# Altium schematic symbol library MicromouseLib.SchLib: 36 symbols
Pins are listed as number, name and electrical type; pins without a type are passive.

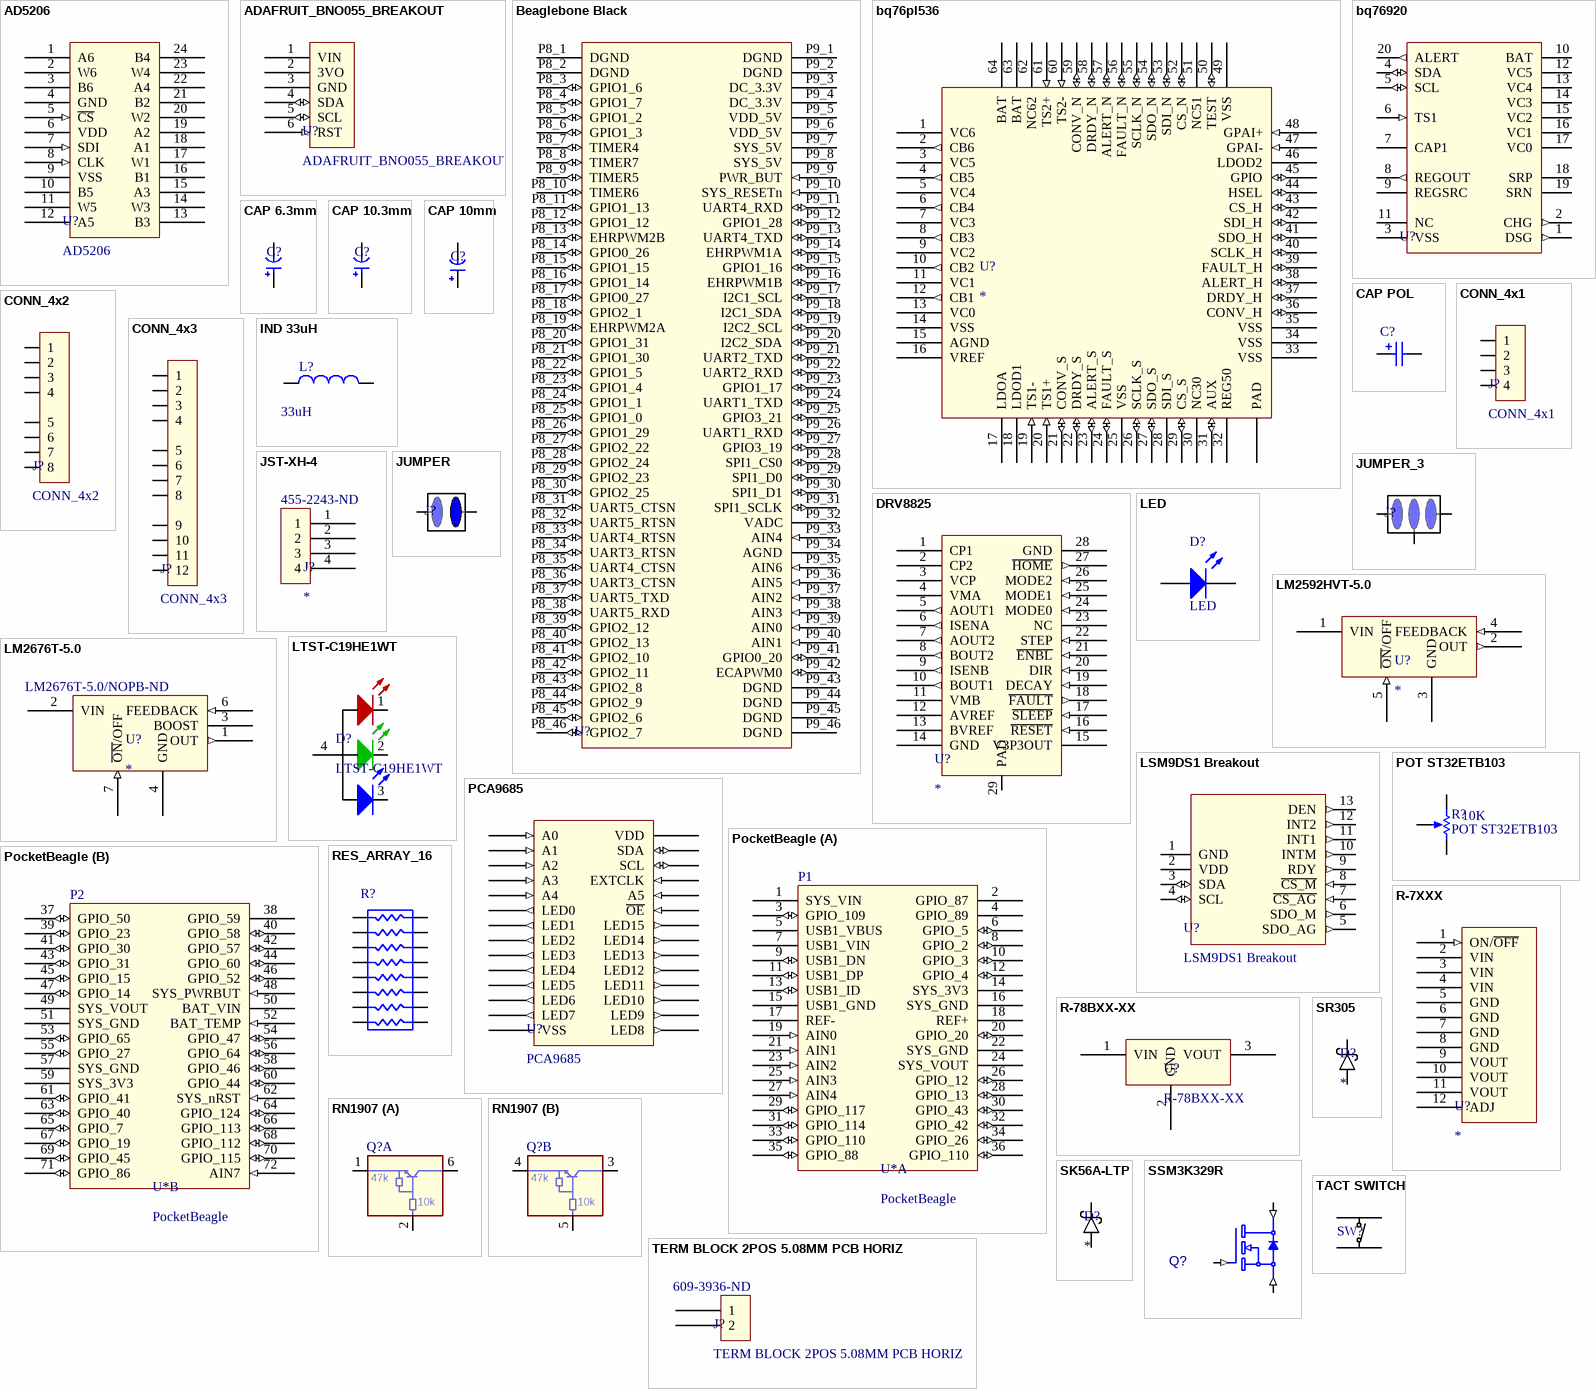
[diagram p0: symbols AD5206 to TERM BLOCK 2POS 5.08MM PCB HORIZ]

## AD5206
designator U?
footprint SOIC_W24
pins: 1 A6, 2 W6, 3 B6, 4 GND (power), 5 ~{CS} (in), 6 VDD (power), 7 SDI (in), 8 CLK (in), 9 VSS (power), 10 B5, 11 W5, 12 A5, 13 B3, 14 W3, 15 A3, 16 B1, 17 W1, 18 A1, 19 A2, 20 W2, 21 B2, 22 A4, 23 W4, 24 B4

## ADAFRUIT_BNO055_BREAKOUT
designator U?
footprint ADAFRUIT_BNO055_BREAKOUT
pins: 1 VIN (power), 2 3VO (power), 3 GND (power), 4 SDA (io), 5 SCL (io), 6 RST (in)

## Beaglebone Black
designator U?  (value not drawn)
footprint BEAGLEBONE_BLACK
pins: P8_1 DGND (power), P8_2 DGND (power), P8_3 GPIO1_6 (io), P8_4 GPIO1_7 (io), P8_5 GPIO1_2 (io), P8_6 GPIO1_3 (io), P8_7 TIMER4 (io), P8_8 TIMER7 (io), P8_9 TIMER5 (io), P8_10 TIMER6 (io), P8_11 GPIO1_13 (io), P8_12 GPIO1_12 (io), P8_13 EHRPWM2B (io), P8_14 GPIO0_26 (io), P8_15 GPIO1_15 (io), P8_16 GPIO1_14 (io), P8_17 GPIO0_27 (io), P8_18 GPIO2_1 (io), P8_19 EHRPWM2A (io), P8_20 GPIO1_31 (io), P8_21 GPIO1_30 (io), P8_22 GPIO1_5 (io), P8_23 GPIO1_4 (io), P8_24 GPIO1_1 (io), P8_25 GPIO1_0 (io), P8_26 GPIO1_29 (io), P8_27 GPIO2_22 (io), P8_28 GPIO2_24 (io), P8_29 GPIO2_23 (io), P8_30 GPIO2_25 (io), P8_31 UART5_CTSN (io), P8_32 UART5_RTSN (io), P8_33 UART4_RTSN (io), P8_34 UART3_RTSN (io), P8_35 UART4_CTSN (io), P8_36 UART3_CTSN (io), P8_37 UART5_TXD (io), P8_38 UART5_RXD (io), P8_39 GPIO2_12 (io), P8_40 GPIO2_13 (io), P8_41 GPIO2_10 (io), P8_42 GPIO2_11 (io), P8_43 GPIO2_8 (io), P8_44 GPIO2_9 (io), P8_45 GPIO2_6 (io), P8_46 GPIO2_7 (io), P9_1 DGND (power), P9_2 DGND (power), P9_3 DC_3.3V (power), P9_4 DC_3.3V (power), P9_5 VDD_5V (power), P9_6 VDD_5V (power), P9_7 SYS_5V (power), P9_8 SYS_5V (power), P9_9 PWR_BUT (in), P9_10 SYS_RESETn (in), P9_11 UART4_RXD (io), P9_12 GPIO1_28 (io), P9_13 UART4_TXD (io), P9_14 EHRPWM1A (io), P9_15 GPIO1_16 (io), P9_16 EHRPWM1B (io), P9_17 I2C1_SCL (io), P9_18 I2C1_SDA (io), P9_19 I2C2_SCL (io), P9_20 I2C2_SDA (io), P9_21 UART2_TXD (io), P9_22 UART2_RXD (io), P9_23 GPIO1_17 (io), P9_24 UART1_TXD (io), P9_25 GPIO3_21 (io), P9_26 UART1_RXD (io), P9_27 GPIO3_19 (io), P9_28 SPI1_CS0 (io), P9_29 SPI1_D0 (io), P9_30 SPI1_D1 (io), P9_31 SPI1_SCLK (io), P9_32 VADC (power), P9_33 AIN4 (in), P9_34 AGND (power), P9_35 AIN6 (in), P9_36 AIN5 (in), P9_37 AIN2 (in), P9_38 AIN3 (in), P9_39 AIN0 (in), P9_40 AIN1 (in), P9_41 GPIO0_20 (io), P9_42 ECAPWM0 (io), P9_43 DGND (power), P9_44 DGND (power), P9_45 DGND (power), P9_46 DGND (power)

## bq76pl536
designator U?
footprint LQFP64-0.5
pins: 1 VC6 (power), 2 CB6 (out), 3 VC5 (power), 4 CB5 (out), 5 VC4 (power), 6 CB4 (out), 7 VC3 (power), 8 CB3 (out), 9 VC2 (power), 10 CB2 (out), 11 VC1 (power), 12 CB1 (out), 13 VC0 (power), 14 VSS (power), 15 AGND (power), 16 VREF (power), 17 LDOA (power), 18 LDOD1 (power), 19 TS1- (in), 20 TS1+ (in), 21 CONV_S (io), 22 DRDY_S (io), 23 ALERT_S (io), 24 FAULT_S (io), 25 VSS (power), 26 SCLK_S (io), 27 SDO_S (io), 28 SDI_S (power), 29 CS_S (io), 30 NC30 (power), 31 AUX (io), 32 REG50 (power), 33 VSS (power), 34 VSS (power), 35 VSS (power), 36 CONV_H (io), 37 DRDY_H (io), 38 ALERT_H (io), 39 FAULT_H (io), 40 SCLK_H (io), 41 SDO_H (io), 42 SDI_H (io), 43 CS_H (io), 44 HSEL (io), 45 GPIO (io), 46 LDOD2 (power), 47 GPAI- (in), 48 GPAI+ (in), 49 VSS (power), 50 TEST (io), 51 NC51 (power), 52 CS_N (io), 53 SDI_N (io), 54 SDO_N (io), 55 SCLK_N (io), 56 FAULT_N (io), 57 ALERT_N (io), 58 DRDY_N (io), 59 CONV_N (io), 60 TS2- (in), 61 TS2+ (in), 62 NC62 (power), 63 BAT (power), 64 BAT (power), 65 PAD (power)

## bq76920
designator U?  (value not drawn)
footprint TSSOP20
pins: 1 DSG (out), 2 CHG (out), 3 VSS (power), 4 SDA (io), 5 SCL (io), 6 TS1 (in), 7 CAP1, 8 REGOUT (out), 9 REGSRC (power), 10 BAT (power), 11 NC, 12 VC5, 13 VC4, 14 VC3, 15 VC2, 16 VC1, 17 VC0, 18 SRP, 19 SRN, 20 ALERT (out)

## CAP 6.3mm
designator C?  (value not drawn)
footprint CAP-6.3mm
pins: 1, 2

## CAP 10.3mm
designator C?  (value not drawn)
footprint CAP 10.3mm
pins: 1, 2

## CAP 10mm
designator C?  (value not drawn)
footprint CAP-10mm
pins: 1, 2

## CAP POL
designator C?  (value not drawn)
Published: 8-Jun-2000; LatestRevisionDate: 17-Jul-2002; LatestRevisionNote: Re-released for DXP Platform.; PackageReference: RB7.6-15; Publisher: Altium Limited; PackageDescription: Polarized Capacitor (Radial); 2 Leads
footprint RB7.6-15 (Polarized Capacitor (Radial); 2 Leads)
simulation model CAP (Capacitor)
signal-integrity model Cap Pol
pins: 1, 2
1 alternate drawing of the same symbol

## CONN_4x1
designator J?
pins: 1, 2, 3, 4

## CONN_4x2
designator J?
footprint CONN_4x2
pins: 1, 2, 3, 4, 5, 6, 7, 8

## CONN_4x3
designator J?
footprint CONN_4x3
pins: 1, 2, 3, 4, 5, 6, 7, 8, 9, 10, 11, 12

## DRV8825
designator U?
footprint PP28
pins: 1 CP1, 2 CP2, 3 VCP (power), 4 VMA (power), 5 AOUT1 (out), 6 ISENA (out), 7 AOUT2 (out), 8 BOUT2 (out), 9 ISENB (out), 10 BOUT1 (out), 11 VMB (power), 12 AVREF (power), 13 BVREF (power), 14 GND (power), 15 V3P3OUT (power), 16 ~{RESET} (in) "Internal pulldown", 17 ~{SLEEP} (in) "Internal pulldown", 18 ~{FAULT} (out) "low when in fault", 19 DECAY (in) "Low=slow decay, open=mixed delay, high=fast decay", 20 DIR (in), 21 ~{ENBL} (in) "Internal Pulldown", 22 STEP (in) "Steps on rising edge", 23 NC, 24 MODE0 (in) "Internal Pulldown", 25 MODE1 (in) "Internal Pulldown", 26 MODE2 (in) "Internal Pulldown", 27 ~{HOME} (out) "Low when at home position in the step table", 28 GND, 29 PAD (power)

## IND 33uH
designator L?  value 33uH  (hidden comment: *)
Inductor 33uH
footprint IND-SMD (Surface-Mount Inductor)
pins: 1, 2

## JST-XH-4
designator J?  Supplier Part Number 1: 455-2243-ND
Manufacturer: JST Sales America Inc.; Manufacturer Part Number: S4B-XH-A(LF)(SN); Connector Type: Header; Pitch - Mating: 0.098" (2.50mm); Number of Positions: 4; Number of Positions Loaded: All; Style: Board to Cable/Wire; Shrouding: Shrouded - 4 Wall; Contact Length - Post: 0.134" (3.40mm); Material Flammability Rating: UL94 V-0; Current Rating: 3A; Voltage Rating: 250V; Mated Stacking Heights: 6.1mm; Supplier 1: Digi-Key; RoHS: RoHS Compliant; Category: Connectors, Interconnects; Stock 1: 46156; Pricing 1: 1=0.27, 10=0.257, 100=0.1785, 500=0.151, 1000=0.12355, 5000=0.10982, 10000=0.09953 (USD); Packaging: Bulk; Part Status: Active; Contact Type: Male Pin; Number of Rows: 1; Row Spacing - Mating: -; Mounting Type: Through Hole, Right Angle; Termination: Press-Fit, Solder; Fastening Type: Detent Lock; Contact Length - Mating: -; Overall Contact Length: -; Insulation Height: 0.240" (6.10mm); Contact Shape: Square; Contact Finish - Mating: Tin; Contact Finish Thickness - Mating: -; Contact Finish - Post: Tin; Contact Material: Brass; Insulation Material: Polyamide (PA66), Nylon 6/6; Features: -; Operating Temperature: -25°C ~ 85°C; Ingress Protection: -; Insulation Color: Natural; Contact Finish Thickness - Post: -; Applications: -; ComponentLink1URL: http://www.jst-mfg.com/product/pdf/eng/eXH.pdf; ComponentLink1Description: http://www.jst-mfg.com/product/pdf/eng/eXH.pdf
footprint JST-XH-4
pins: 1, 2, 3, 4

## JUMPER
designator J?  (value not drawn)
footprint JUMPER
pins: 1, 2

## JUMPER_3
designator J?  (value not drawn)
footprint JUMPER_3
pins: 1 (power), 2 (power), 3 (power)

## LED
designator D?
Published: 8-Jun-2000; LatestRevisionDate: 17-Jul-2002; LatestRevisionNote: Re-released for DXP Platform.; PackageVersion: Feb-2002; PackageReference: 3.2X1.6X1.1; Publisher: Altium Limited; PackageDescription: SM LED; 2 Flat Leads
simulation model LED2 (Diode)
pins: 1 A, 2 K

## LM2592HVT-5.0
designator U?
Power Converter 150-kHz 2-A Step-Down Voltage  Regulator
footprint TO-220-5 with Heatsink (TO-220-5 with 335-1092-ND heatsink)
pins: 1 VIN (power), 2 OUT (out), 3 GND (power), 4 FEEDBACK (in), 5 ~{ON}/OFF (in)

## LM2676T-5.0
designator U?  Supplier Part Number 1: LM2676T-5.0/NOPB-ND
High Efficiency 3-A Step-Down Voltage Regulator; Manufacturer: Texas Instruments; Manufacturer Part Number: LM2676T-5.0/NOPB; Output Configuration: Positive; Topology: Buck; Output Type: Fixed; Number of Outputs: 1; Voltage - Input (Min): 8V; Voltage - Input (Max): 40V; Voltage - Output (Min/Fixed): 5V; Current - Output: 3A; Frequency - Switching: 260kHz; Synchronous Rectifier: No; Supplier 1: Digi-Key; RoHS: RoHS Compliant; Category: Integrated Circuits (ICs); Stock 1: 349; Pricing 1: 1=4.77, 10=4.284, 100=3.51, 500=2.988, 1000=2.52 (USD); Packaging: Tube; Part Status: Active; Function: Step-Down; Voltage - Output (Max): -; Operating Temperature: -40°C ~ 125°C (TJ); Mounting Type: Through Hole; Package / Case: TO-220-7 (Formed Leads); Supplier Device Package: TO-220-7; ComponentLink1URL: http://www.ti.com/lit/ds/symlink/lm2676.pdf; ComponentLink1Description: http://www.ti.com/lit/ds/symlink/lm2676.pdf
footprint TO-220-7 with Heatsink (TO-220-5 with 335-1092-ND heatsink)
pins: 1 OUT (out), 2 VIN (power), 3 BOOST, 4 GND (power), 6 FEEDBACK (in), 7 ~{ON}/OFF (in)

## LSM9DS1 Breakout
designator U?
SPARKFUN 9 DEGREES OF FREEDOM IM; Supplier Part Number 1: 1568-1257-ND; Supplier 1: Digi-Key
footprint LSM9DS1 Breakout
pins: 1 GND (power), 2 VDD (power), 3 SDA (io), 4 SCL (io), 5 SDO_AG (out), 6 SDO_M (out), 7 ~{CS_AG} (in), 8 ~{CS_M} (in), 9 RDY (out), 10 INTM (out), 11 INT1 (out), 12 INT2 (out), 13 DEN (out)

## LTST-C19HE1WT
designator D?
footprint LTST-C19HE1WT
pins: 1 R "Red", 2 G "Blue", 3 B "Green", 4 A "Common"

## PCA9685
designator U?
footprint TSSOP28
pins: 1 A0 (in), 2 A1 (in), 3 A2 (in), 4 A3 (in), 5 A4 (in), 6 LED0 (out), 7 LED1 (out), 8 LED2 (out), 9 LED3 (out), 10 LED4 (out), 11 LED5 (out), 12 LED6 (out), 13 LED7 (out), 14 VSS (power), 15 LED8 (out), 16 LED9 (out), 17 LED10 (out), 18 LED11 (out), 19 LED12 (out), 20 LED13 (out), 21 LED14 (out), 22 LED15 (out), 23 ~{OE} (in), 24 A5 (in), 25 EXTCLK (in), 26 SCL (io), 27 SDA (io), 28 VDD (power)

## PocketBeagle
designator U*
Male Connector DigiKey PN: 732-5309-ND; Female Connector DigiKey PN: S7121-ND
footprint PocketBeagle
part A pins: 1 SYS_VIN (power), 2 GPIO_87, 3 GPIO_109 (io), 4 GPIO_89, 5 USB1_VBUS (power), 6 GPIO_5 (io), 7 USB1_VIN (power), 8 GPIO_2 (io), 9 USB1_DN (io), 10 GPIO_3 (io), 11 USB1_DP (io), 12 GPIO_4 (io), 13 USB1_ID (io), 14 SYS_3V3 (power), 15 USB1_GND (power), 16 SYS_GND (power), 17 REF- (power), 18 REF+ (power), 19 AIN0 (in), 20 GPIO_20 (io), 21 AIN1 (in), 22 SYS_GND, 23 AIN2 (in), 24 SYS_VOUT (power), 25 AIN3 (in), 26 GPIO_12 (io), 27 AIN4 (in), 28 GPIO_13 (io), 29 GPIO_117 (io), 30 GPIO_43 (io), 31 GPIO_114 (io), 32 GPIO_42 (io), 33 GPIO_110 (io), 34 GPIO_26 (io), 35 GPIO_88 (io), 36 GPIO_110 (io)
part B pins: 37 GPIO_50 (io), 38 GPIO_59, 39 GPIO_23 (io), 40 GPIO_58 (io), 41 GPIO_30 (io), 42 GPIO_57 (io), 43 GPIO_31 (io), 44 GPIO_60 (io), 45 GPIO_15 (io), 46 GPIO_52 (io), 47 GPIO_14 (io), 48 SYS_PWRBUT (in), 49 SYS_VOUT (power), 50 BAT_VIN (power), 51 SYS_GND (power), 52 BAT_TEMP (in), 53 GPIO_65 (io), 54 GPIO_47 (io), 55 GPIO_27 (io), 56 GPIO_64 (io), 57 SYS_GND (power), 58 GPIO_46 (io), 59 SYS_3V3 (power), 60 GPIO_44 (io), 61 GPIO_41 (io), 62 SYS_nRST (in), 63 GPIO_40 (io), 64 GPIO_124 (io), 65 GPIO_7 (io), 66 GPIO_113 (io), 67 GPIO_19 (io), 68 GPIO_112 (io), 69 GPIO_45 (io), 70 GPIO_115 (io), 71 GPIO_86 (io), 72 AIN7 (in)
part A text: P1
part B text: P2

## POT ST32ETB103
designator R?  value 10K
10K Trimmer Potentiometer; Sim Note: Enter the Resistance value and the set point into parameter fields.; Set Position: 0.5; Published: 8-Jun-2000; LatestRevisionDate: 17-Jul-2002; LatestRevisionNote: Re-released for DXP Platform.; PackageReference: VR5; Publisher: Altium Limited; PackageDescription: Variable Resistor, Thru-Hole; 3 Leads
footprint ST32-EB
simulation model POT (Potentiometer)
pins: 1 TOP, 2 TAP, 3 BOT
1 alternate drawing of the same symbol

## R-7XXX
designator U?
footprint R-7XXX (The R-7XXX series is a high performance 2.5V to 15V , 2Amp to 4Amp,12-Pin SIP (single in-line package),  Integrated switching regulator (ISR). The Synchronous - rectified design yields excellent efficiencies up to 97%.  Short circuit protection reduces the short circuit input current to under 50mA.)
pins: 1 ON/~{OFF} (in), 2 VIN (power), 3 VIN (power), 4 VIN (power), 5 GND (power), 6 GND (power), 7 GND (power), 8 GND (power), 9 VOUT (power), 10 VOUT (power), 11 VOUT (power), 12 ADJ (power)

## R-78BXX-XX
designator U?
footprint SIP-3
pins: 1 VIN (power), 2 GND (power), 3 VOUT (power)

## RES_ARRAY_16
designator R?
pins: 1, 2, 3, 4, 5, 6, 7, 8, 9, 10, 11, 12, 13, 14, 15, 16

## RN1907
designator Q?
TRANS 2NPN PREBIAS 0.2W US6; Supplier Part Number 1: RN1907LF(CTCT-ND; Supplier 1: Digi-Key
footprint SOT363-6L (SOT363, 6-Leads, Body 2x1.3mm, Pitch 0.65mm, Lead Span 2.1mm, IPC High Density)
part A pins: 1 4, 2 5, 6 3
part B pins: 3, 4, 5
part A text: 47k; 10k
part B text: 47k; 10k

## SK56A-LTP
designator D?
footprint DO-214AC
pins: A, K

## SR305
designator D?
Schottky Diode 50V 3A
footprint DO-201AD
pins: A, K

## SSM3K329R
designator Q?
footprint SOT-23_N (SOT23, 3-Leads, Body 2.9x1.3mm, Pitch 0.95mm, Lead Span 2.5mm, IPC Medium Density)
pins: 1 (in), 2 (in), 3 (in)

## TACT SWITCH
designator SW?  (value not drawn)
SWITCH TACTILE SPST-NO 0.05A 12V; Manufacturer: C&K; Manufacturer Part Number: PTS645SL50SMTR92 LFS; Switch Function: Off-Mom; Contact Rating @ Voltage: 0.05A @ 12VDC; Actuator Type: Standard; Actuator Height off PCB, Vertical: 5.00mm; Actuator Orientation: Top Actuated; Outline: 6.00mm x 6.00mm; Illumination: Non-Illuminated; Operating Force: 130gf; Actuator Material: Polyamide (PA66), Nylon 6/6; Mechanical Life: 100,000 Cycles; Supplier 1: Digi-Key; RoHS: RoHS Compliant; Category: Switches; Stock 1: 42939; Pricing 1: 1=0.22, 10=0.215, 25=0.2076, 50=0.2002, 100=0.1891, 250=0.17796, 500=0.17054 (USD); Packaging: Cut Tape (CT); Part Status: Active; Circuit: SPST-NO; Mounting Type: Surface Mount; Actuator Length, Right Angle: -; Termination Style: Gull Wing; Illumination Type, Color: -; Illumination Voltage (Nominal): -; Ingress Protection: -; Features: -; Operating Temperature: -20°C ~ 60°C; Switch Travel: -; ComponentLink1URL: https://www.ckswitches.com/media/1471/pts645.pdf; ComponentLink1Description: https://www.ckswitches.com/media/1471/pts645.pdf; Supplier Part Number 1: CKN9088CT-ND
footprint TACT SWITCH
pins: 1 (power), 2 (power), 3 (power), 4 (power)

## TERM BLOCK 2POS 5.08MM PCB HORIZ
designator J?  Supplier Part Number 1: 609-3936-ND
Manufacturer: Amphenol Anytek; Manufacturer Part Number: VI0221520000G; Positions Per Level: 2; Pitch: 0.200" (5.08mm); Mating Orientation: Horizontal with Board; Wire Gauge: 12-28 AWG; Wire Termination: Screw - Rising Cage Clamp; Clamp Material - Plating: Copper Alloy - Nickel Plated; Screw Material - Plating: Steel - Zinc Plated; Torque - Screw: 0.4 Nm (3.5 Lb-In); Screw Thread: M3; Supplier 1: Digi-Key; RoHS: RoHS Compliant; Category: Connectors, Interconnects; Stock 1: 17365; Pricing 1: 1=0.9, 10=0.562, 25=0.4808, 50=0.432, 100=0.423, 250=0.36, 500=0.342, 1000=0.306, 5000=0.2394 (USD); Packaging: Bulk; Part Status: Active; Mounting Type: Through Hole; Features: Interlocking (Side); Color: Green; Operating Temperature: -40°C ~ 115°C; Housing Material: Thermoplastic; Contact Material - Plating: Copper Alloy - Tin Plated; ComponentLink1URL: http://portal.fciconnect.com/Comergent//fci/drawing/20020316.pdf; ComponentLink1Description: http://portal.fciconnect.com/Comergent//fci/drawing/20020316.pdf
footprint TERM BLOCK 2POS 5.08MM PCB HORIZ
pins: 1, 2

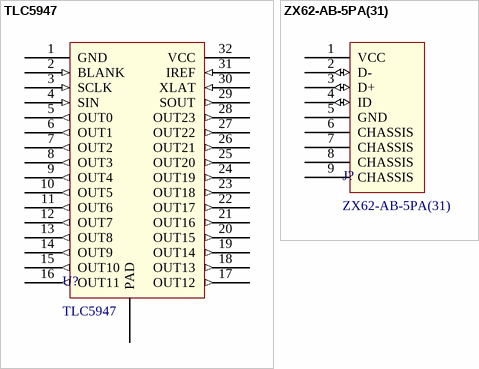
[diagram p1: symbols TLC5947 to ZX62-AB-5PA(31)]

## TLC5947
designator U?
footprint R-PDSO-G32
pins: 1 GND (power), 2 BLANK (in), 3 SCLK (in), 4 SIN (in), 5 OUT0 (out), 6 OUT1 (out), 7 OUT2 (out), 8 OUT3 (out), 9 OUT4 (out), 10 OUT5 (out), 11 OUT6 (out), 12 OUT7 (out), 13 OUT8 (out), 14 OUT9 (out), 15 OUT10 (out), 16 OUT11 (out), 17 OUT12 (out), 18 OUT13 (out), 19 OUT14 (out), 20 OUT15 (out), 21 OUT16 (out), 22 OUT17 (out), 23 OUT18 (out), 24 OUT19 (out), 25 OUT20 (out), 26 OUT21 (out), 27 OUT22 (out), 28 OUT23 (out), 29 SOUT (out), 30 XLAT (in), 31 IREF (in), 32 VCC (power), 33 PAD (power)

## ZX62-AB-5PA(31)
designator J?
footprint ZX62-AB-5PA(31)
pins: 1 VCC (power), 2 D- (io), 3 D+ (io), 4 ID (io), 5 GND (power), 6 CHASSIS (power), 7 CHASSIS (power), 8 CHASSIS (power), 9 CHASSIS (power)